# Altium schematic symbol library PowerSupply.SchLib: 2 symbols
Pins are listed as number, name and electrical type; pins without a type are passive.

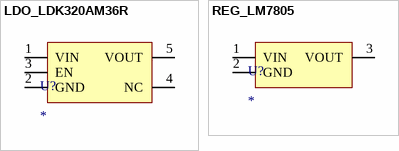
[diagram p0: symbols LDO_LDK320AM36R to REG_LM7805]

## LDO_LDK320AM36R
designator U?
pins: 1 VIN, 2 GND, 3 EN, 4 NC, 5 VOUT

## REG_LM7805
designator U?
pins: 1 VIN, 2 GND, 3 VOUT